# EAGLE library part LORA-E5 (library pimoroni-ics)
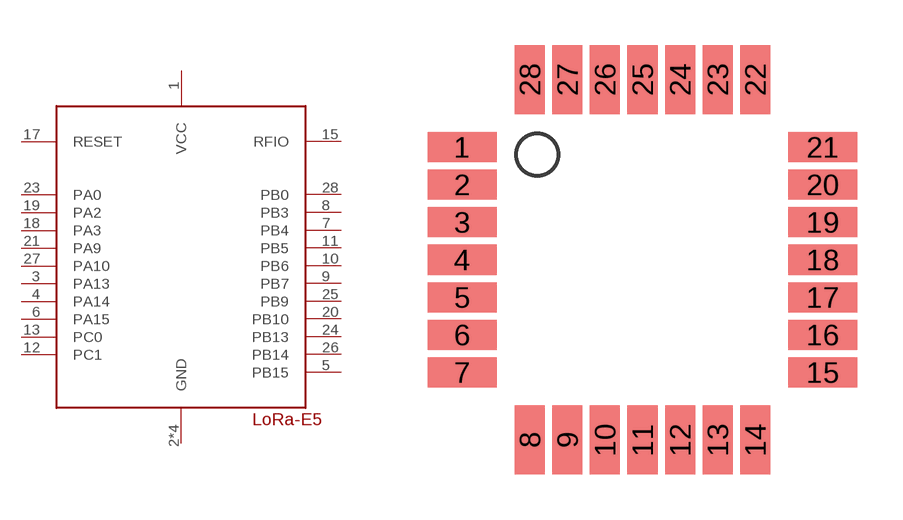
[diagram p158: symbol with the pads of LORA-E5; footprint LORA-E5]

Designator prefix -

## LORA-E5  [LORA-E5]
1  VCC
2  GND
3  PA13
4  PA14
5  PB15
6  PA15
7  PB4
8  PB3
9  PB7
10  PB6
11  PB5
12  PC1
13  PC0
14  GND
15  RFIO
16  GND
17  RESET
18  PA3
19  PA2
20  PB10
21  PA9
22  GND
23  PA0
24  PB13
25  PB9
26  PB14
27  PA10
28  PB0

## Footprint LORA-E5 (pad centres in mm)
smd 2.3 x 1: 1 -6,3.75; 2 -6,2.5; 3 -6,1.25; 4 -6,0; 5 -6,-1.25; 6 -6,-2.5; 7 -6,-3.75; 15 6,-3.75; 16 6,-2.5; 17 6,-1.25; 18 6,0; 19 6,1.25; 20 6,2.5; 21 6,3.75
smd 1 x 2.3: 8 -3.75,-6; 9 -2.5,-6; 10 -1.25,-6; 11 0,-6; 12 1.25,-6; 13 2.5,-6; 14 3.75,-6; 22 3.75,6; 23 2.5,6; 24 1.25,6; 25 0,6; 26 -1.25,6; 27 -2.5,6; 28 -3.75,6